# EAGLE library part IEEE1394_OVERLAY (library NewSDR)
IEEE-1394 ESD OVERLAY
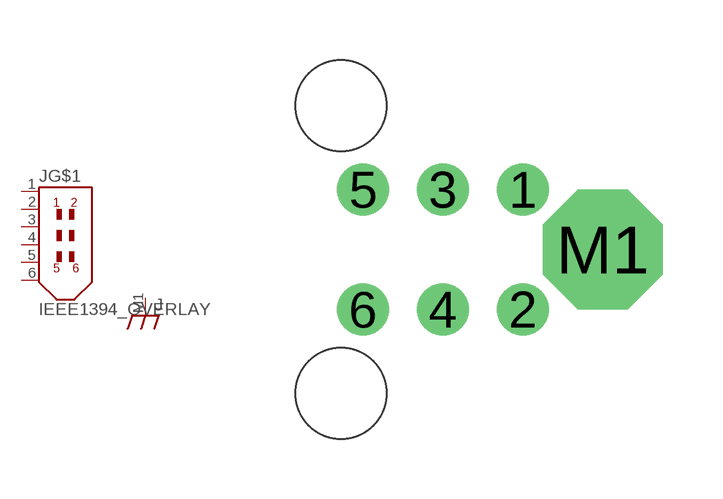
[diagram p142: symbol with the pads of IEEE1394_OVERLAY; footprint IEEE1394_OVERLAY]

Designator prefix J; gates G$1=IEEE1394_6P G$2=SHIELD

## IEEE1394_OVERLAY  [IEEE1394_OVERLAY]
1  G$1:1  pas
2  G$1:2  pas
3  G$1:3  pas
4  G$1:4  pas
5  G$1:5  pas
6  G$1:6  pas
M1  G$2:SH  pas

## Footprint IEEE1394_OVERLAY (pad centres in mm)
IEEE1394 ESD OVERLAY
drill 0.8 pad 1.27: 1 7.8,1.5; 2 7.8,-1.5; 3 5.8,1.5; 4 5.8,-1.5; 5 3.8,1.5; 6 3.8,-1.5
drill 2 pad 2.54 octagon: M1 9.8,0
hole 2.286 at 3.25,3.6
hole 2.286 at 3.25,-3.6